# EAGLE library part HSCDLNN001PDAA3 (library HSCDLNN001PDAA3)
Board Mount Pressure Sensors DIP,Sing Ax Brblss Differential, 3.3V Source: Datasheet <https://sensing.honeywell.com/honeywell-sensing-trustability-hsc-series-high-accuracy-board-mount-pressure-sensors-50099148-a-en.pdf>
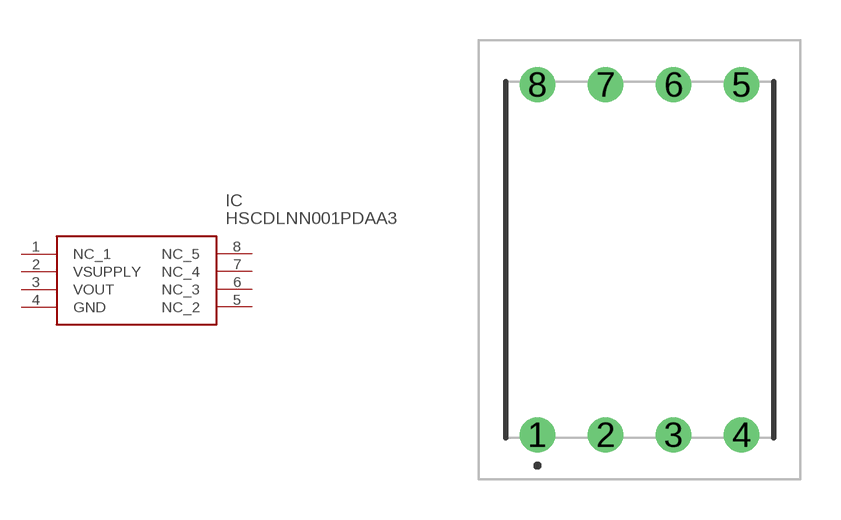
[diagram p0: symbol with the pads of HSCDLNN001PDAA3; footprint HSCDLNN001PDAA3]

Designator prefix IC

## HSCDLNN001PDAA3 (Description: Board Mount Pressure Sensors DIP,Sing Ax Brblss Differential, 3.3V; Height: 13.75mm; Manufacturer_Name: Honeywell; Manufacturer_Part_Number: HSCDLNN001PDAA3)  [HSCDLNN001PDAA3]
1  NC_1
2  VSUPPLY
3  VOUT
4  GND
5  NC_2
6  NC_3
7  NC_4
8  NC_5

## Footprint HSCDLNN001PDAA3 (pad centres in mm)
DIP LN
drill 0.813 pad 1.321: 1 0,0; 2 2.54,0; 3 5.08,0; 4 7.62,0; 5 7.62,13.08; 6 5.08,13.08; 7 2.54,13.08; 8 0,13.08